# Altium schematic symbol library WTR_SchLib.SchLib: 13 symbols
Pins are listed as number, name and electrical type; pins without a type are passive.

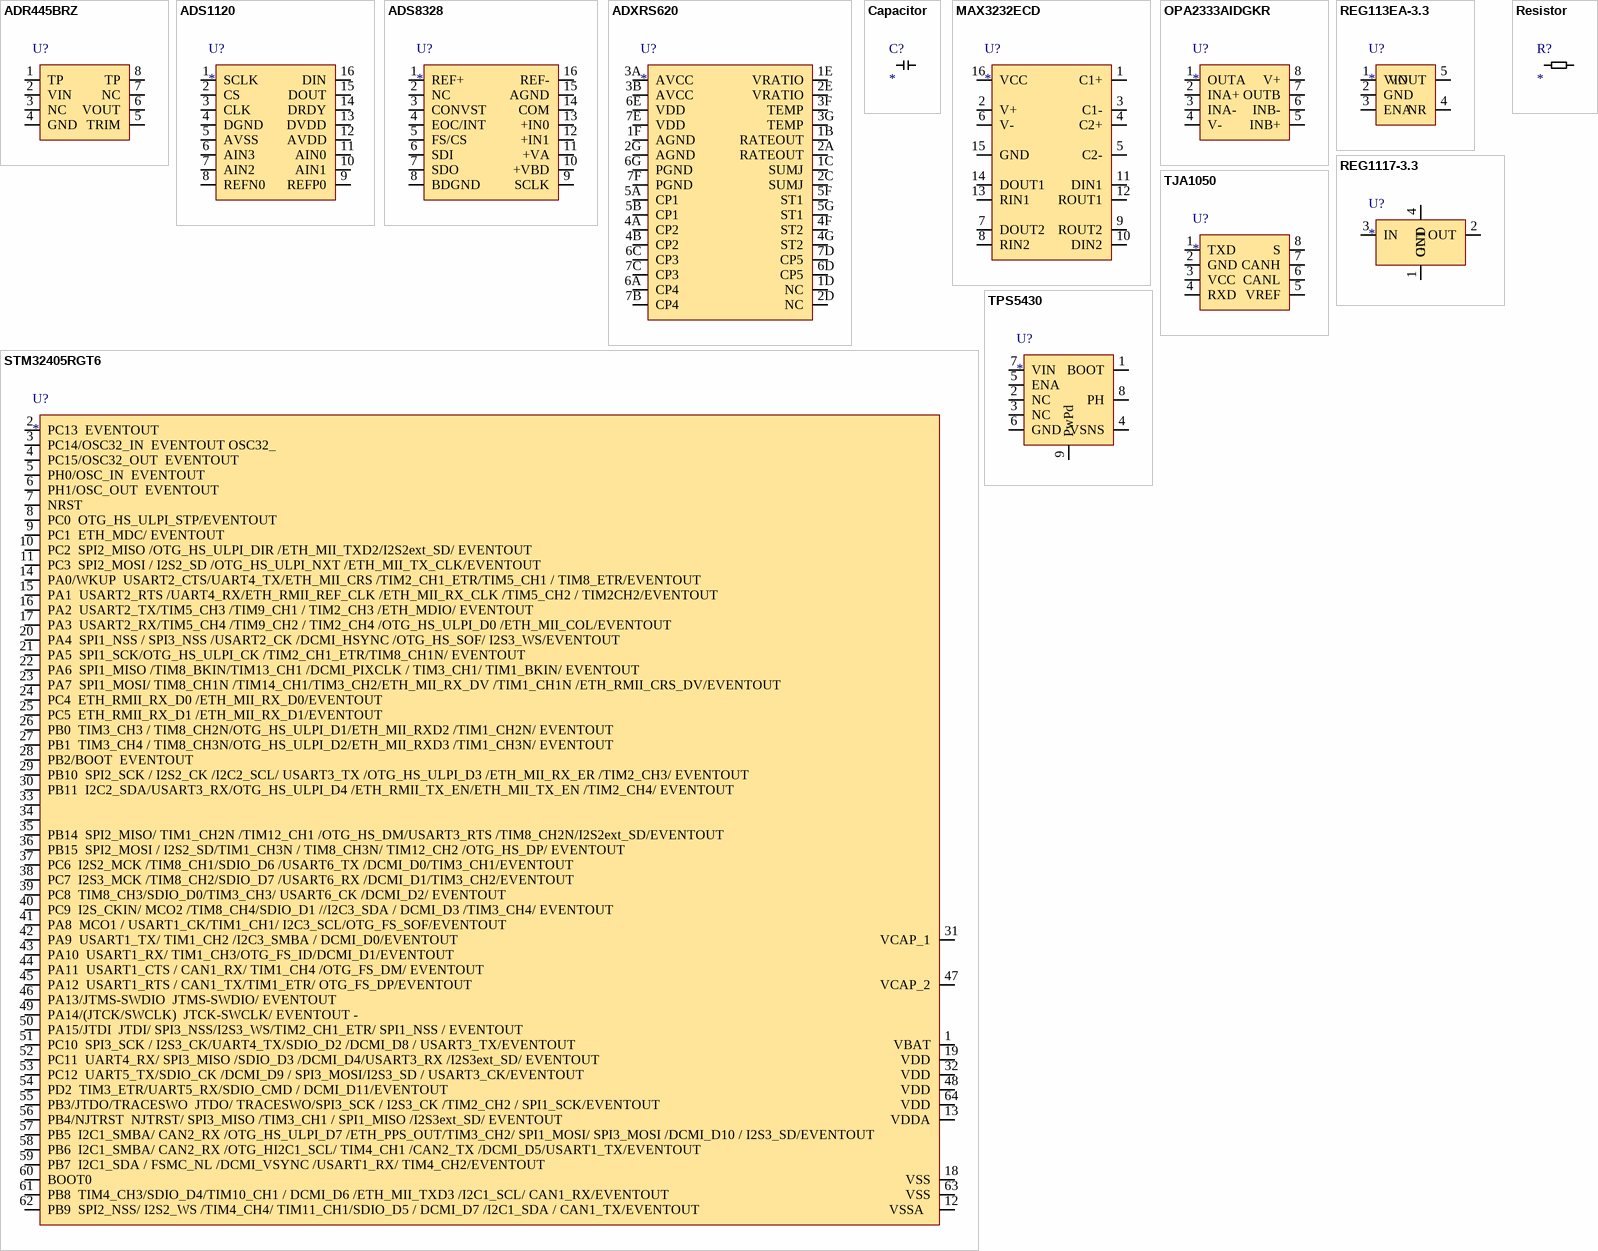
[diagram p0: symbols ADR445BRZ to TPS5430]

## ADR445BRZ
designator U?
5V电压基准源(ADI)
pins: 1 TP, 2 VIN, 3 NC, 4 GND, 5 TRIM, 6 VOUT, 7 NC, 8 TP

## ADS1120
designator U?
4路ADC(TI)
pins: 1 SCLK, 2 CS, 3 CLK, 4 DGND, 5 AVSS, 6 AIN3, 7 AIN2, 8 REFN0, 9 REFP0, 10 AIN1, 11 AIN0, 12 AVDD, 13 DVDD, 14 DRDY, 15 DOUT, 16 DIN

## ADS8328
designator U?
2路高速ADC(TI)
pins: 1 REF+, 2 NC, 3 CONVST, 4 EOC/INT, 5 FS/CS, 6 SDI, 7 SDO, 8 BDGND, 9 SCLK, 10 +VBD, 11 +VA, 12 +IN1, 13 +IN0, 14 COM, 15 AGND, 16 REF-

## ADXRS620
designator U?
单轴陀螺仪(ADI)
footprint BGA32C80P7X7_688X688X380 (BGA, 32-Leads, Body 6.88x6.88mmx3.80mm, Pitch 0.80mm)
pins: 1B RATEOUT, 1C SUMJ, 1D NC, 1E VRATIO, 1F AGND, 2A RATEOUT, 2C SUMJ, 2D NC, 2E VRATIO, 2G AGND, 3A AVCC, 3B AVCC, 3F TEMP, 3G TEMP, 4A CP2, 4B CP2, 4F ST2, 4G ST2, 5A CP1, 5B CP1, 5F ST1, 5G ST1, 6A CP4, 6C CP3, 6D CP5, 6E VDD, 6G PGND, 7B CP4, 7C CP3, 7D CP5, 7E VDD, 7F PGND

## Capacitor
designator C?
pins: 1, 2

## MAX3232ECD
designator U?
USART
pins: 1 C1+, 2 V+, 3 C1-, 4 C2+, 5 C2-, 6 V-, 7 DOUT2, 8 RIN2, 9 ROUT2, 10 DIN2, 11 DIN1, 12 ROUT1, 13 RIN1, 14 DOUT1, 15 GND, 16 VCC

## OPA2333AIDGKR
designator U?
双运放
pins: 1 OUTA, 2 INA+, 3 INA-, 4 V-, 5 INB+, 6 INB-, 7 OUTB, 8 V+

## REG113EA-3.3
designator U?
3.3V LDO
pins: 1 VIN, 2 GND, 3 ENA, 4 NR, 5 VOUT

## REG1117-3.3
designator U?
3.3V LDO
pins: 1 GND, 2 OUT, 3 IN, 4 OUT

## Resistor
designator R?
pins: 1, 2

## STM32405RGT6
designator U?
pins: 1 VBAT, 2 PC13  EVENTOUT, 3 PC14/OSC32_IN  EVENTOUT OSC32_, 4 PC15/OSC32_OUT  EVENTOUT, 5 PH0/OSC_IN  EVENTOUT, 6 PH1/OSC_OUT  EVENTOUT, 7 NRST  , 8 PC0  OTG_HS_ULPI_STP/EVENTOUT, 9 PC1  ETH_MDC/ EVENTOUT, 10 PC2  SPI2_MISO /OTG_HS_ULPI_DIR /ETH_MII_TXD2/I2S2ext_SD/ EVENTOUT, 11 PC3  SPI2_MOSI / I2S2_SD /OTG_HS_ULPI_NXT /ETH_MII_TX_CLK/EVENTOUT, 12 VSSA  , 13 VDDA, 14 PA0/WKUP  USART2_CTS/UART4_TX/ETH_MII_CRS /TIM2_CH1_ETR/TIM5_CH1 / TIM8_ETR/EVENTOUT, 15 PA1  USART2_RTS /UART4_RX/ETH_RMII_REF_CLK /ETH_MII_RX_CLK /TIM5_CH2 / TIM2CH2/EVENTOUT, 16 PA2  USART2_TX/TIM5_CH3 /TIM9_CH1 / TIM2_CH3 /ETH_MDIO/ EVENTOUT, 17 PA3  USART2_RX/TIM5_CH4 /TIM9_CH2 / TIM2_CH4 /OTG_HS_ULPI_D0 /ETH_MII_COL/EVENTOUT, 18 VSS, 19 VDD, 20 PA4  SPI1_NSS / SPI3_NSS /USART2_CK /DCMI_HSYNC /OTG_HS_SOF/ I2S3_WS/EVENTOUT, 21 PA5  SPI1_SCK/OTG_HS_ULPI_CK /TIM2_CH1_ETR/TIM8_CH1N/ EVENTOUT, 22 PA6  SPI1_MISO /TIM8_BKIN/TIM13_CH1 /DCMI_PIXCLK / TIM3_CH1/ TIM1_BKIN/ EVENTOUT, 23 PA7  SPI1_MOSI/ TIM8_CH1N /TIM14_CH1/TIM3_CH2/ETH_MII_RX_DV /TIM1_CH1N /ETH_RMII_CRS_DV/EVENTOUT, 24 PC4  ETH_RMII_RX_D0 /ETH_MII_RX_D0/EVENTOUT, 25 PC5  ETH_RMII_RX_D1 /ETH_MII_RX_D1/EVENTOUT, 26 PB0  TIM3_CH3 / TIM8_CH2N/OTG_HS_ULPI_D1/ETH_MII_RXD2 /TIM1_CH2N/ EVENTOUT, 27 PB1  TIM3_CH4 / TIM8_CH3N/OTG_HS_ULPI_D2/ETH_MII_RXD3 /TIM1_CH3N/ EVENTOUT, 28 PB2/BOOT  EVENTOUT, 29 PB10  SPI2_SCK / I2S2_CK /I2C2_SCL/ USART3_TX /OTG_HS_ULPI_D3 /ETH_MII_RX_ER /TIM2_CH3/ EVENTOUT, 30 PB11  I2C2_SDA/USART3_RX/OTG_HS_ULPI_D4 /ETH_RMII_TX_EN/ETH_MII_TX_EN /TIM2_CH4/ EVENTOUT, 31 VCAP_1, 32 VDD, 33 PB12  SPI2_NSS / I2S2_WS /I2C2_SMBA/USART3_CK/ TIM1_BKIN /CAN2_RX /OTG_HS_ULPI_D5/ETH_RMII_TXD0 /ETH_MII_TXD0/OTG_HS_ID/ EVENTOUT, 34 PB13  SPI2_SCK / I2S2_CK /USART3_CTS/TIM1_CH1N /CAN2_TX /OTG_HS_ULPI_D6 /ETH_RMII_TXD1 /ETH_MII_TXD1/EVENTOUT, 35 PB14  SPI2_MISO/ TIM1_CH2N /TIM12_CH1 /OTG_HS_DM/USART3_RTS /TIM8_CH2N/I2S2ext_SD/EVENTOUT, 36 PB15  SPI2_MOSI / I2S2_SD/TIM1_CH3N / TIM8_CH3N/ TIM12_CH2 /OTG_HS_DP/ EVENTOUT, 37 PC6  I2S2_MCK /TIM8_CH1/SDIO_D6 /USART6_TX /DCMI_D0/TIM3_CH1/EVENTOUT, 38 PC7  I2S3_MCK /TIM8_CH2/SDIO_D7 /USART6_RX /DCMI_D1/TIM3_CH2/EVENTOUT, 39 PC8  TIM8_CH3/SDIO_D0/TIM3_CH3/ USART6_CK /DCMI_D2/ EVENTOUT, 40 PC9  I2S_CKIN/ MCO2 /TIM8_CH4/SDIO_D1 //I2C3_SDA / DCMI_D3 /TIM3_CH4/ EVENTOUT, 41 PA8  MCO1 / USART1_CK/TIM1_CH1/ I2C3_SCL/OTG_FS_SOF/EVENTOUT, 42 PA9  USART1_TX/ TIM1_CH2 /I2C3_SMBA / DCMI_D0/EVENTOUT, 43 PA10  USART1_RX/ TIM1_CH3/OTG_FS_ID/DCMI_D1/EVENTOUT, 44 PA11  USART1_CTS / CAN1_RX/ TIM1_CH4 /OTG_FS_DM/ EVENTOUT, 45 PA12  USART1_RTS / CAN1_TX/TIM1_ETR/ OTG_FS_DP/EVENTOUT, 46 PA13/JTMS-SWDIO  JTMS-SWDIO/ EVENTOUT, 47 VCAP_2, 48 VDD, 49 PA14/(JTCK/SWCLK)  JTCK-SWCLK/ EVENTOUT -, 50 PA15/JTDI  JTDI/ SPI3_NSS/I2S3_WS/TIM2_CH1_ETR/ SPI1_NSS / EVENTOUT, 51 PC10  SPI3_SCK / I2S3_CK/UART4_TX/SDIO_D2 /DCMI_D8 / USART3_TX/EVENTOUT, 52 PC11  UART4_RX/ SPI3_MISO /SDIO_D3 /DCMI_D4/USART3_RX /I2S3ext_SD/ EVENTOUT, 53 PC12  UART5_TX/SDIO_CK /DCMI_D9 / SPI3_MOSI/I2S3_SD / USART3_CK/EVENTOUT, 54 PD2  TIM3_ETR/UART5_RX/SDIO_CMD / DCMI_D11/EVENTOUT, 55 PB3/JTDO/TRACESWO  JTDO/ TRACESWO/SPI3_SCK / I2S3_CK /TIM2_CH2 / SPI1_SCK/EVENTOUT, 56 PB4/NJTRST  NJTRST/ SPI3_MISO /TIM3_CH1 / SPI1_MISO /I2S3ext_SD/ EVENTOUT, 57 PB5  I2C1_SMBA/ CAN2_RX /OTG_HS_ULPI_D7 /ETH_PPS_OUT/TIM3_CH2/ SPI1_MOSI/ SPI3_MOSI /DCMI_D10 / I2S3_SD/EVENTOUT, 58 PB6  I2C1_SMBA/ CAN2_RX /OTG_HI2C1_SCL/ TIM4_CH1 /CAN2_TX /DCMI_D5/USART1_TX/EVENTOUT, 59 PB7  I2C1_SDA / FSMC_NL /DCMI_VSYNC /USART1_RX/ TIM4_CH2/EVENTOUT, 60 BOOT0, 61 PB8  TIM4_CH3/SDIO_D4/TIM10_CH1 / DCMI_D6 /ETH_MII_TXD3 /I2C1_SCL/ CAN1_RX/EVENTOUT, 62 PB9  SPI2_NSS/ I2S2_WS /TIM4_CH4/ TIM11_CH1/SDIO_D5 / DCMI_D7 /I2C1_SDA / CAN1_TX/EVENTOUT, 63 VSS, 64 VDD

## TJA1050
designator U?
CAN收发器
pins: 1 TXD, 2 GND, 3 VCC, 4 RXD, 5 VREF, 6 CANL, 7 CANH, 8 S

## TPS5430
designator U?
可调变压器
pins: 1 BOOT, 2 NC, 3 NC, 4 VSNS, 5 ENA, 6 GND, 7 VIN, 8 PH, 9 PwPd